# EAGLE library part 8T13 (library dec-con)
Dual IBM Transmitter
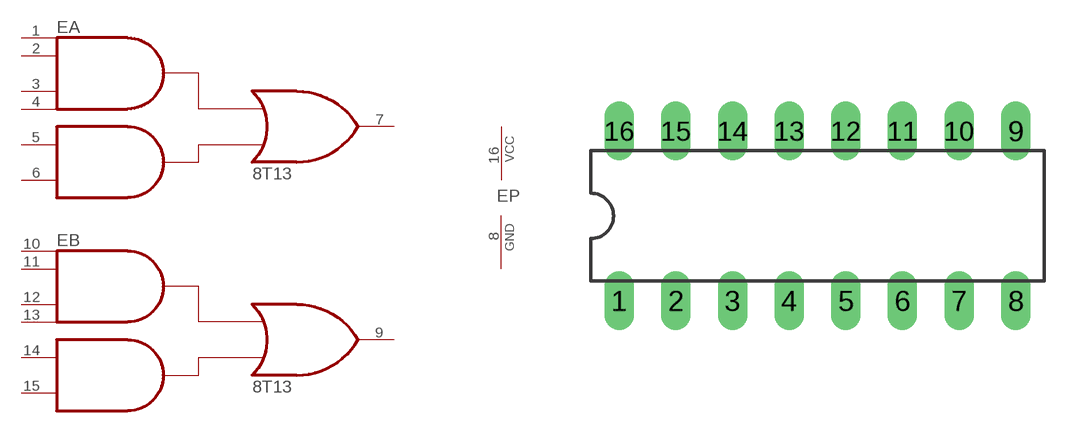
[diagram p58: symbol with the pads of DIL16; footprint DIL16]

Designator prefix E; gates A=8T13 B=8T13 P=PWRN

## 8T13  [DIL16]
1  A:A1  in
2  A:A2  in
3  A:A3  in
4  A:A4  in
5  A:B1  in
6  A:B2  in
7  A:O  out
8  P:GND  pwr
9  B:O  out
10  B:A1  in
11  B:A2  in
12  B:A3  in
13  B:A4  in
14  B:B1  in
15  B:B2  in
16  P:VCC  pwr

## Footprint DIL16 (pad centres in mm)
Dual In Line Package
drill 0.813 long: 1 -8.89,-3.81; 2 -6.35,-3.81; 3 -3.81,-3.81; 4 -1.27,-3.81; 5 1.27,-3.81; 6 3.81,-3.81; 7 6.35,-3.81; 8 8.89,-3.81; 9 8.89,3.81; 10 6.35,3.81; 11 3.81,3.81; 12 1.27,3.81; 13 -1.27,3.81; 14 -3.81,3.81; 15 -6.35,3.81; 16 -8.89,3.81